# Altium schematic symbol library CPU_PowerPC.SchLib: 1 symbol
Pins are listed as number, name and electrical type; pins without a type are passive.

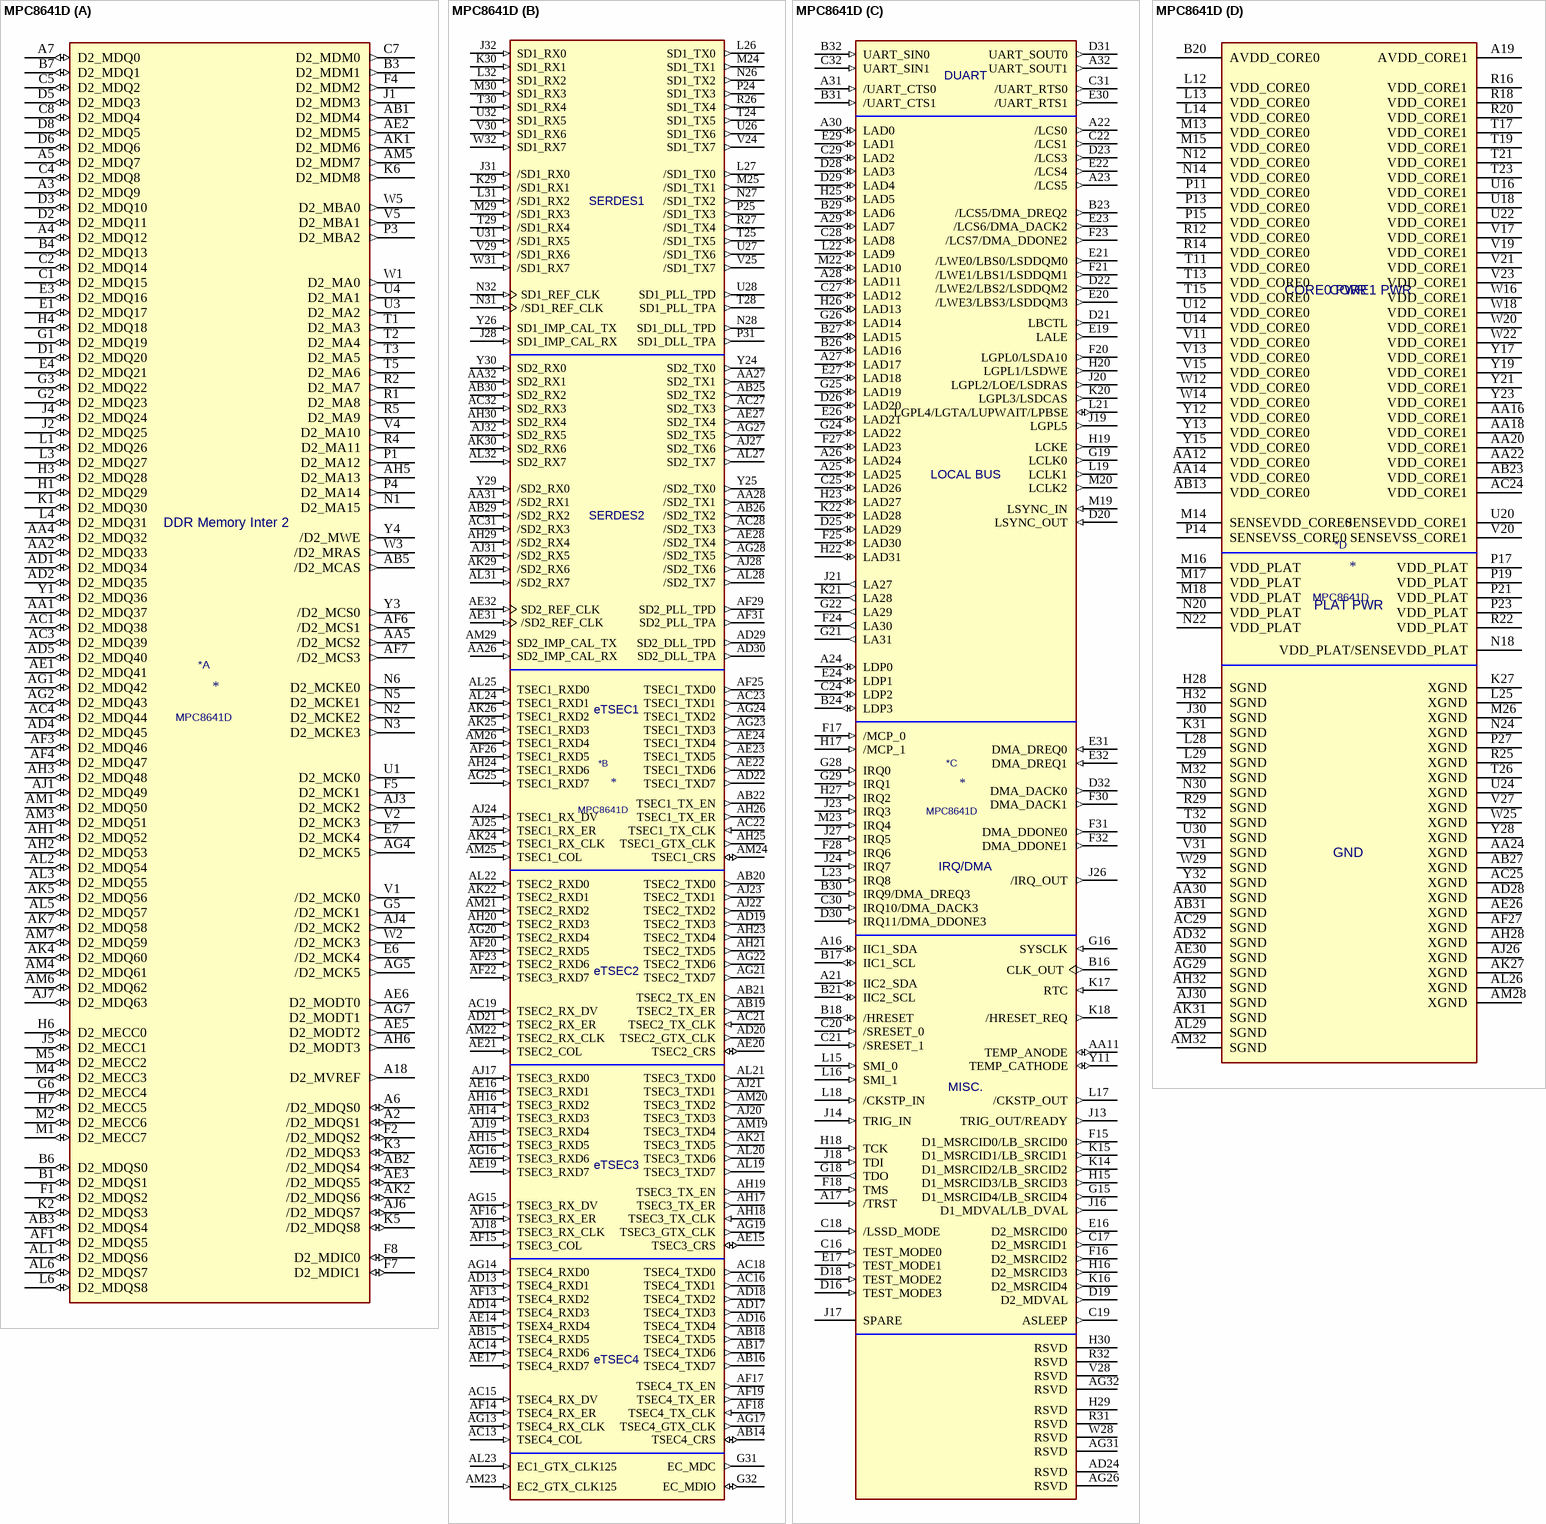
[diagram p0: symbol MPC8641D]

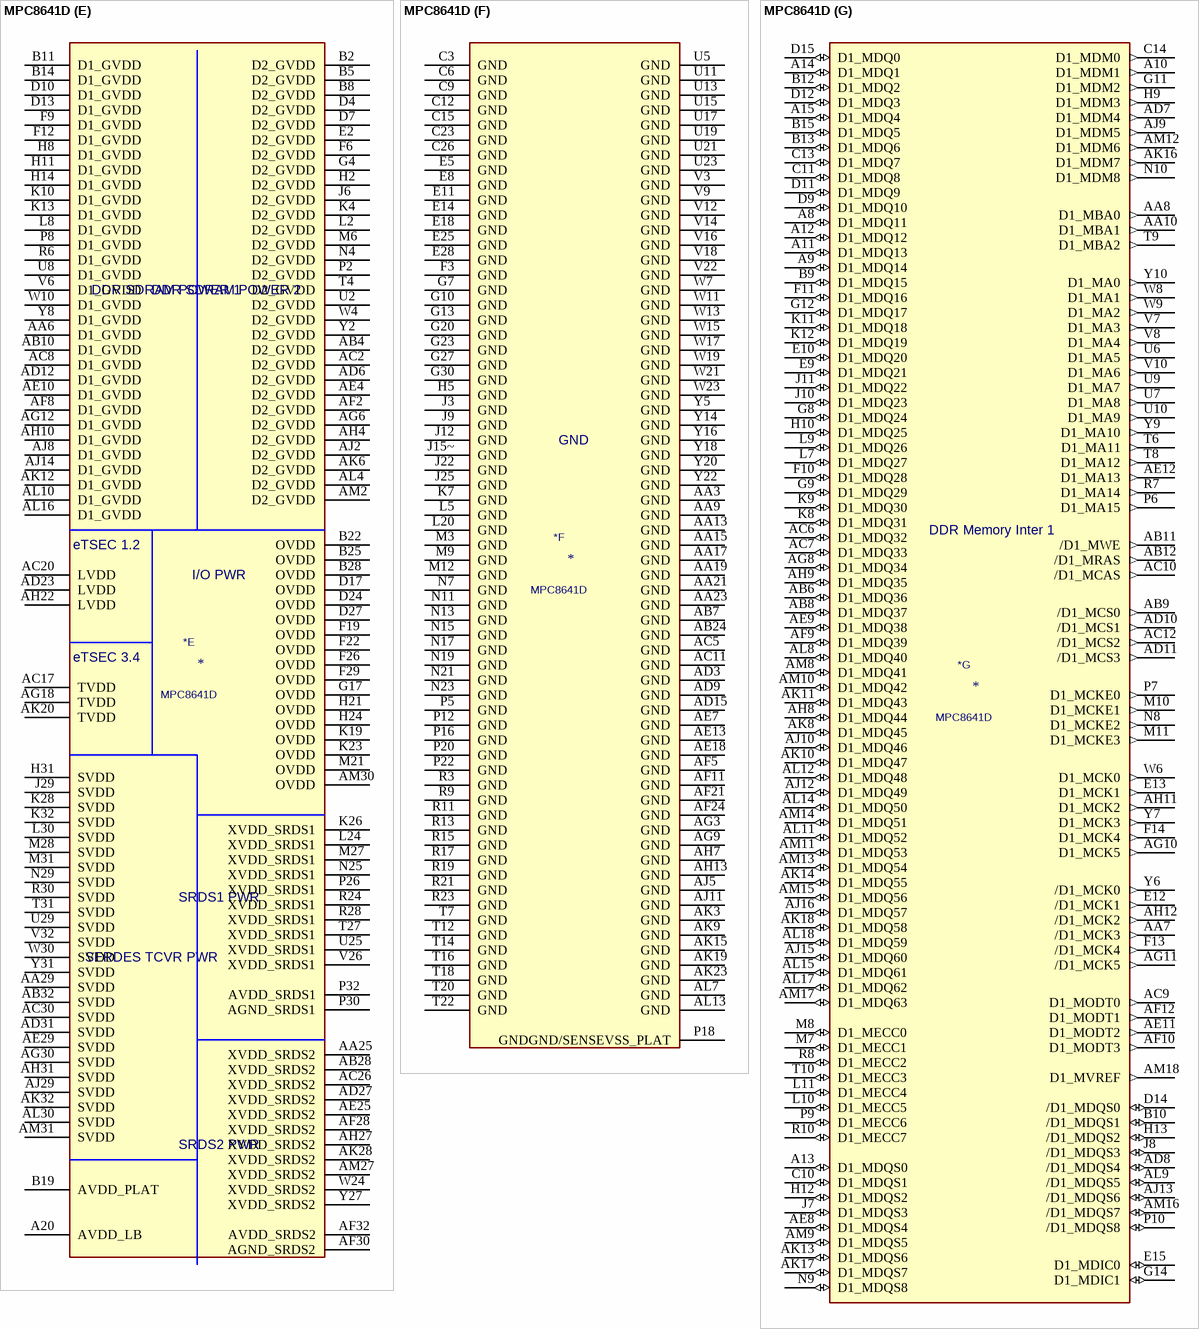
[diagram p1: symbol MPC8641D]

## MPC8641D
designator *  value MPC8641D
ki_keywords: POWERPC; ki_description: Freescale PowerPC E600 core, package BGA1023 pins pitch 1mm
part A pins: A2 /D2_MDQS1 (io), A3 D2_MDQ9 (io), A4 D2_MDQ12 (io), A5 D2_MDQ7 (io), A6 /D2_MDQS0 (io), A7 D2_MDQ0 (io), A18 D2_MVREF (out), AA1 D2_MDQ37 (io), AA2 D2_MDQ33 (io), AA4 D2_MDQ32 (io), AA5 /D2_MCS2 (out), AB1 D2_MDM4 (out), AB2 /D2_MDQS4 (io), AB3 D2_MDQS4 (io), AB5 /D2_MCAS (out), AC1 D2_MDQ38 (io), AC3 D2_MDQ39 (io), AC4 D2_MDQ44 (io), AD1 D2_MDQ34 (io), AD2 D2_MDQ35 (io), AD4 D2_MDQ45 (io), AD5 D2_MDQ40 (io), AE1 D2_MDQ41 (io), AE2 D2_MDM5 (out), AE3 /D2_MDQS5 (io), AE5 D2_MODT2 (out), AE6 D2_MODT0 (out), AF1 D2_MDQS5 (io), AF3 D2_MDQ46 (io), AF4 D2_MDQ47 (io), AF6 /D2_MCS1 (out), AF7 /D2_MCS3 (out), AG1 D2_MDQ42 (io), AG2 D2_MDQ43 (io), AG4 D2_MCK5 (out), AG5 /D2_MCK5 (out), AG7 D2_MODT1 (out), AH1 D2_MDQ52 (io), AH2 D2_MDQ53 (io), AH3 D2_MDQ48 (io), AH5 D2_MA13 (out), AH6 D2_MODT3 (out), AJ1 D2_MDQ49 (io), AJ3 D2_MCK2 (out), AJ4 /D2_MCK2 (out), AJ6 /D2_MDQS7 (io), AJ7 D2_MDQ63 (io), AK1 D2_MDM6 (out), AK2 /D2_MDQS6 (io), AK4 D2_MDQ60 (io), AK5 D2_MDQ56 (io), AK7 D2_MDQ58 (io), AL1 D2_MDQS6 (io), AL2 D2_MDQ54 (io), AL3 D2_MDQ55 (io), AL5 D2_MDQ57 (io), AL6 D2_MDQS7 (io), AM1 D2_MDQ50 (io), AM3 D2_MDQ51 (io), AM4 D2_MDQ61 (io), AM5 D2_MDM7 (out), AM6 D2_MDQ62 (io), AM7 D2_MDQ59 (io), B1 D2_MDQS1 (io), B3 D2_MDM1 (out), B4 D2_MDQ13 (io), B6 D2_MDQS0 (io), B7 D2_MDQ1 (io), C1 D2_MDQ15 (io), C2 D2_MDQ14 (io), C4 D2_MDQ8 (io), C5 D2_MDQ2 (io), C7 D2_MDM0 (out), C8 D2_MDQ4 (io), D1 D2_MDQ20 (io), D2 D2_MDQ11 (io), D3 D2_MDQ10 (io), D5 D2_MDQ3 (io), D6 D2_MDQ6 (io), D8 D2_MDQ5 (io), E1 D2_MDQ17 (io), E3 D2_MDQ16 (io), E4 D2_MDQ21 (io), E6 /D2_MCK4 (out), E7 D2_MCK4 (out), F1 D2_MDQS2 (io), F2 /D2_MDQS2 (io), F4 D2_MDM2 (out), F5 D2_MCK1 (out), F7 D2_MDIC1 (io), F8 D2_MDIC0 (io), G1 D2_MDQ19 (io), G2 D2_MDQ23 (io), G3 D2_MDQ22 (io), G5 /D2_MCK1 (out), G6 D2_MECC4 (io), H1 D2_MDQ29 (io), H3 D2_MDQ28 (io), H4 D2_MDQ18 (io), H6 D2_MECC0 (io), H7 D2_MECC5 (io), J1 D2_MDM3 (out), J2 D2_MDQ25 (io), J4 D2_MDQ24 (io), J5 D2_MECC1 (io), K1 D2_MDQ30 (io), K2 D2_MDQS3 (io), K3 /D2_MDQS3 (io), K5 /D2_MDQS8 (io), K6 D2_MDM8 (out), L1 D2_MDQ26 (io), L3 D2_MDQ27 (io), L4 D2_MDQ31 (io), L6 D2_MDQS8 (io), M1 D2_MECC7 (io), M2 D2_MECC6 (io), M4 D2_MECC3 (io), M5 D2_MECC2 (io), N1 D2_MA15 (out), N2 D2_MCKE2 (out), N3 D2_MCKE3 (out), N5 D2_MCKE1 (out), N6 D2_MCKE0 (out), P1 D2_MA12 (out), P3 D2_MBA2 (out), P4 D2_MA14 (out), R1 D2_MA8 (out), R2 D2_MA7 (out), R4 D2_MA11 (out), R5 D2_MA9 (out), T1 D2_MA3 (out), T2 D2_MA4 (out), T3 D2_MA5 (out), T5 D2_MA6 (out), U1 D2_MCK0 (out), U3 D2_MA2 (out), U4 D2_MA1 (out), V1 /D2_MCK0 (out), V2 D2_MCK3 (out), V4 D2_MA10 (out), V5 D2_MBA1 (out), W1 D2_MA0 (out), W2 /D2_MCK3 (out), W3 /D2_MRAS (out), W5 D2_MBA0 (out), Y1 D2_MDQ36 (io), Y3 /D2_MCS0 (out), Y4 /D2_MWE (out)
part B pins: AA26 SD2_IMP_CAL_RX (in), AA27 SD2_TX1 (out), AA28 /SD2_TX1 (out), AA31 /SD2_RX1 (in), AA32 SD2_RX1 (in), AB14 TSEC4_CRS (io), AB15 TSEC4_RXD5 (in), AB16 TSEC4_TXD7 (out), AB17 TSEC4_TXD6 (out), AB18 TSEC4_TXD5 (out), AB19 TSEC2_TX_ER (out), AB20 TSEC2_TXD0 (out), AB21 TSEC2_TX_EN (out), AB22 TSEC1_TX_EN (out), AB25 SD2_TX2 (out), AB26 /SD2_TX2 (out), AB29 /SD2_RX2 (in), AB30 SD2_RX2 (in), AC13 TSEC4_COL (in), AC14 TSEC4_RXD6 (in), AC15 TSEC4_RX_DV (in), AC16 TSEC4_TXD1 (out), AC18 TSEC4_TXD0 (out), AC19 TSEC2_RX_DV (in), AC21 TSEC2_TX_CLK (in), AC22 TSEC1_TX_CLK (in), AC23 TSEC1_TXD1 (out), AC27 SD2_TX3 (out), AC28 /SD2_TX3 (out), AC31 /SD2_RX3 (in), AC32 SD2_RX3 (in), AD13 TSEC4_RXD1 (in), AD14 TSEC4_RXD3 (in), AD16 TSEC4_TXD4 (out), AD17 TSEC4_TXD3 (out), AD18 TSEC4_TXD2 (out), AD19 TSEC2_TXD3 (out), AD20 TSEC2_GTX_CLK (out), AD21 TSEC2_RX_ER (in), AD22 TSEC1_TXD7 (out), AD29 SD2_DLL_TPD (out), AD30 SD2_DLL_TPA (out), AE14 TSEX4_RXD4 (in), AE15 TSEC3_CRS (io), AE16 TSEC3_RXD1 (in), AE17 TSEC4_RXD7 (in), AE19 TSEC3_RXD7 (in), AE20 TSEC2_CRS (io), AE21 TSEC2_COL (in), AE22 TSEC1_TXD6 (out), AE23 TSEC1_TXD5 (out), AE24 TSEC1_TXD4 (out), AE27 SD2_TX4 (out), AE28 /SD2_TX4 (out), AE31 /SD2_REF_CLK (in), AE32 SD2_REF_CLK (in), AF13 TSEC4_RXD2 (in), AF14 TSEC4_RX_ER (in), AF15 TSEC3_COL (in), AF16 TSEC3_RX_ER (in), AF17 TSEC4_TX_EN (out), AF18 TSEC4_TX_CLK (in), AF19 TSEC4_TX_ER (out), AF20 TSEC2_RXD5 (in), AF22 TSEC3_RXD7 (in), AF23 TSEC2_RXD6 (in), AF25 TSEC1_TXD0 (out), AF26 TSEC1_RXD5 (in), AF29 SD2_PLL_TPD (out), AF31 SD2_PLL_TPA (out), AG13 TSEC4_RX_CLK (in), AG14 TSEC4_RXD0 (in), AG15 TSEC3_RX_DV (in), AG16 TSEC3_RXD6 (in), AG17 TSEC4_GTX_CLK (out), AG19 TSEC3_GTX_CLK (out), AG20 TSEC2_RXD4 (in), AG21 TSEC2_TXD7 (out), AG22 TSEC2_TXD6 (out), AG23 TSEC1_TXD3 (out), AG24 TSEC1_TXD2 (out), AG25 TSEC1_RXD7 (in), AG27 SD2_TX5 (out), AG28 /SD2_TX5 (out), AH14 TSEC3_RXD3 (in), AH15 TSEC3_RXD5 (in), AH16 TSEC3_RXD2 (in), AH17 TSEC3_TX_ER (out), AH18 TSEC3_TX_CLK (in), AH19 TSEC3_TX_EN (out), AH20 TSEC2_RXD3 (in), AH21 TSEC2_TXD5 (out), AH23 TSEC2_TXD4 (out), AH24 TSEC1_RXD6 (in), AH25 TSEC1_GTX_CLK (out), AH26 TSEC1_TX_ER (out), AH29 /SD2_RX4 (in), AH30 SD2_RX4 (in), AJ17 TSEC3_RXD0 (in), AJ18 TSEC3_RX_CLK (in), AJ19 TSEC3_RXD4 (in), AJ20 TSEC3_TXD3 (out), AJ21 TSEC3_TXD1 (out), AJ22 TSEC2_TXD2 (out), AJ23 TSEC2_TXD1 (out), AJ24 TSEC1_RX_DV (in), AJ25 TSEC1_RX_ER (in), AJ27 SD2_TX6 (out), AJ28 /SD2_TX6 (out), AJ31 /SD2_RX5 (in), AJ32 SD2_RX5 (in), AK21 TSEC3_TXD5 (out), AK22 TSEC2_RXD1 (in), AK24 TSEC1_RX_CLK (in), AK25 TSEC1_RXD3 (in), AK26 TSEC1_RXD2 (in), AK29 /SD2_RX6 (in), AK30 SD2_RX6 (in), AL19 TSEC3_TXD7 (out), AL20 TSEC3_TXD6 (out), AL21 TSEC3_TXD0 (out), AL22 TSEC2_RXD0 (in), AL23 EC1_GTX_CLK125 (in), AL24 TSEC1_RXD1 (in), AL25 TSEC1_RXD0 (in), AL27 SD2_TX7 (out), AL28 /SD2_TX7 (out), AL31 /SD2_RX7 (in), AL32 SD2_RX7 (in), AM19 TSEC3_TXD4 (out), AM20 TSEC3_TXD2 (out), AM21 TSEC2_RXD2 (in), AM22 TSEC2_RX_CLK (in), AM23 EC2_GTX_CLK125 (in), AM24 TSEC1_CRS (io), AM25 TSEC1_COL (in), AM26 TSEC1_RXD4 (in), AM29 SD2_IMP_CAL_TX (in), G31 EC_MDC (out), G32 EC_MDIO (io), J28 SD1_IMP_CAL_RX (in), J31 /SD1_RX0 (in), J32 SD1_RX0 (in), K29 /SD1_RX1 (in), K30 SD1_RX1 (in), L26 SD1_TX0 (out), L27 /SD1_TX0 (out), L31 /SD1_RX2 (in), L32 SD1_RX2 (in), M24 SD1_TX1 (out), M25 /SD1_TX1 (out), M29 /SD1_RX3 (in), M30 SD1_RX3 (in), N26 SD1_TX2 (out), N27 /SD1_TX2 (out), N28 SD1_DLL_TPD (out), N31 /SD1_REF_CLK (in), N32 SD1_REF_CLK (in), P24 SD1_TX3 (out), P25 /SD1_TX3 (out), P31 SD1_DLL_TPA (out), R26 SD1_TX4 (out), R27 /SD1_TX4 (out), T24 SD1_TX5 (out), T25 /SD1_TX5 (out), T28 SD1_PLL_TPA (out), T29 /SD1_RX4 (in), T30 SD1_RX4 (in), U26 SD1_TX6 (out), U27 /SD1_TX6 (out), U28 SD1_PLL_TPD (out), U31 /SD1_RX5 (in), U32 SD1_RX5 (in), V24 SD1_TX7 (out), V25 /SD1_TX7 (out), V29 /SD1_RX6 (in), V30 SD1_RX6 (in), W31 /SD1_RX7 (in), W32 SD1_RX7 (in), Y24 SD2_TX0 (out), Y25 /SD2_TX0 (out), Y26 SD1_IMP_CAL_TX (in), Y29 /SD2_RX0 (in), Y30 SD2_RX0 (in)
part C pins: A16 IIC1_SDA (io), A17 /TRST (in), A21 IIC2_SDA (io), A22 /LCS0 (out), A23 /LCS5 (out), A24 LDP0 (io), A25 LAD25 (io), A26 LAD24 (io), A27 LAD17 (io), A28 LAD11 (io), A29 LAD7 (io), A30 LAD0 (io), A31 /UART_CTS0 (in), A32 UART_SOUT1 (out), AA11 TEMP_ANODE (io), AD24 RSVD, AD25 NC (in) hidden, AD26 NC (in) hidden, AG26 RSVD, AG31 RSVD, AG32 RSVD, B16 CLK_OUT (out), B17 IIC1_SCL (io), B18 /HRESET (io), B21 IIC2_SCL (io), B23 /LCS5/DMA_DREQ2 (out), B24 LDP3 (io), B26 LAD16 (io), B27 LAD15 (io), B29 LAD6 (io), B30 IRQ9/DMA_DREQ3 (in), B31 /UART_CTS1 (in), B32 UART_SIN0 (in), C16 TEST_MODE0 (in), C17 D2_MSRCID1 (out), C18 /LSSD_MODE (in), C19 ASLEEP (out), C20 /SRESET_0 (in), C21 /SRESET_1 (in), C22 /LCS1 (out), C24 LDP2 (io), C25 LAD26 (io), C27 LAD12 (io), C28 LAD8 (io), C29 LAD2 (io), C30 IRQ10/DMA_DACK3 (in), C31 /UART_RTS0 (out), C32 UART_SIN1 (in), D16 TEST_MODE3 (in), D18 TEST_MODE2 (in), D19 D2_MDVAL (out), D20 LSYNC_OUT (in), D21 LBCTL (out), D22 /LWE2/LBS2/LSDDQM2 (out), D23 /LCS3 (out), D25 LAD29 (io), D26 LAD20 (io), D28 LAD3 (io), D29 LAD4 (io), D30 IRQ11/DMA_DDONE3 (in), D31 UART_SOUT0 (out), D32 DMA_DACK0 (out), E16 D2_MSRCID0 (out), E17 TEST_MODE1 (in), E19 LALE (out), E20 /LWE3/LBS3/LSDDQM3 (out), E21 /LWE0/LBS0/LSDDQM0 (out), E22 /LCS4 (out), E23 /LCS6/DMA_DACK2 (out), E24 LDP1 (io), E26 LAD21 (io), E27 LAD18 (io), E29 LAD1 (io), E30 /UART_RTS1 (out), E31 DMA_DREQ0 (in), E32 DMA_DREQ1 (in), F15 D1_MSRCID0/LB_SRCID0 (out), F16 D2_MSRCID2 (out), F17 /MCP_0 (in), F18 TMS (in), F20 LGPL0/LSDA10 (out), F21 /LWE1/LBS1/LSDDQM1 (out), F23 /LCS7/DMA_DDONE2 (out), F24 LA30 (out), F25 LAD30 (io), F27 LAD23 (io), F28 IRQ6 (in), F30 DMA_DACK1 (out), F31 DMA_DDONE0 (out), F32 DMA_DDONE1 (out), G15 D1_MSRCID4/LB_SRCID4 (out), G16 SYSCLK (in), G18 TDO (out), G19 LCLK0 (out), G21 LA31 (out), G22 LA29 (out), G24 LAD22 (io), G25 LAD19 (io), G26 LAD14 (io), G28 IRQ0 (in), G29 IRQ1 (in), H15 D1_MSRCID3/LB_SRCID3 (out), H16 D2_MSRCID3 (out), H17 /MCP_1 (in), H18 TCK (in), H19 LCKE (out), H20 LGPL1/LSDWE (out), H22 LAD31 (io), H23 LAD27 (io), H25 LAD5 (io), H26 LAD13 (io), H27 IRQ2 (in), H29 RSVD, H30 RSVD, J13 TRIG_OUT/READY (out), J14 TRIG_IN (in), J16 D1_MDVAL/LB_DVAL (out), J17 SPARE, J18 TDI (in), J19 LGPL5 (out), J20 LGPL2/LOE/LSDRAS (out), J21 LA27 (out), J23 IRQ3 (in), J24 IRQ7 (in), J26 /IRQ_OUT (out), J27 IRQ5 (in), K14 D1_MSRCID2/LB_SRCID2 (out), K15 D1_MSRCID1/LB_SRCID1 (out), K16 D2_MSRCID4 (out), K17 RTC (in), K18 /HRESET_REQ (out), K20 LGPL3/LSDCAS (out), K21 LA28 (out), K22 LAD28 (io), K24 NC (in) hidden, K25 NC (in) hidden, L15 SMI_0 (in), L16 SMI_1 (in), L17 /CKSTP_OUT (out), L18 /CKSTP_IN (in), L19 LCLK1 (out), L21 LGPL4/LGTA/LUPWAIT/LPBSE (io), L22 LAD9 (io), L23 IRQ8 (in), M19 LSYNC_IN (in), M20 LCLK2 (out), M22 LAD10 (io), M23 IRQ4 (in), P28 NC (in) hidden, P29 NC (in) hidden, R31 RSVD, R32 RSVD, V28 RSVD, W26 NC (in) hidden, W27 NC (in) hidden, W28 RSVD, Y11 TEMP_CATHODE (io)
part D pins: A19 AVDD_CORE1 (power), AA12 VDD_CORE0 (power), AA14 VDD_CORE0 (power), AA16 VDD_CORE1 (power), AA18 VDD_CORE1 (power), AA20 VDD_CORE1 (power), AA22 VDD_CORE1 (power), AA24 XGND (power), AA30 SGND (power), AB13 VDD_CORE0 (power), AB23 VDD_CORE1 (power), AB27 XGND (power), AB31 SGND (power), AC24 VDD_CORE1 (power), AC25 XGND (power), AC29 SGND (power), AD28 XGND (power), AD32 SGND (power), AE26 XGND (power), AE30 SGND (power), AF27 XGND (power), AG29 SGND (power), AH28 XGND (power), AH32 SGND (power), AJ26 XGND (power), AJ30 SGND (power), AK27 XGND (power), AK31 SGND (power), AL26 XGND (power), AL29 SGND (power), AM28 XGND (power), AM32 SGND (power), B20 AVDD_CORE0 (power), H28 SGND (power), H32 SGND (power), J30 SGND (power), K27 XGND (power), K31 SGND (power), L12 VDD_CORE0 (power), L13 VDD_CORE0 (power), L14 VDD_CORE0 (power), L25 XGND (power), L28 SGND (power), L29 SGND (power), M13 VDD_CORE0 (power), M14 SENSEVDD_CORE0 (power), M15 VDD_CORE0 (power), M16 VDD_PLAT (power), M17 VDD_PLAT (power), M18 VDD_PLAT (power), M26 XGND (power), M32 SGND (power), N12 VDD_CORE0 (power), N14 VDD_CORE0 (power), N18 VDD_PLAT/SENSEVDD_PLAT (power), N20 VDD_PLAT (power), N22 VDD_PLAT (power), N24 XGND (power), N30 SGND (power), P11 VDD_CORE0 (power), P13 VDD_CORE0 (power), P14 SENSEVSS_CORE0 (power), P15 VDD_CORE0 (power), P17 VDD_PLAT (power), P19 VDD_PLAT (power), P21 VDD_PLAT (power), P23 VDD_PLAT (power), P27 XGND (power), R12 VDD_CORE0 (power), R14 VDD_CORE0 (power), R16 VDD_CORE1 (power), R18 VDD_CORE1 (power), R20 VDD_CORE1 (power), R22 VDD_PLAT (power), R25 XGND (power), R29 SGND (power), T11 VDD_CORE0 (power), T13 VDD_CORE0 (power), T15 VDD_CORE0 (power), T17 VDD_CORE1 (power), T19 VDD_CORE1 (power), T21 VDD_CORE1 (power), T23 VDD_CORE1 (power), T26 XGND (power), T32 SGND (power), U12 VDD_CORE0 (power), U14 VDD_CORE0 (power), U16 VDD_CORE1 (power), U18 VDD_CORE1 (power), U20 SENSEVDD_CORE1 (power), U22 VDD_CORE1 (power), U24 XGND (power), U30 SGND (power), V11 VDD_CORE0 (power), V13 VDD_CORE0 (power), V15 VDD_CORE0 (power), V17 VDD_CORE1 (power), V19 VDD_CORE1 (power), V20 SENSEVSS_CORE1 (power), V21 VDD_CORE1 (power), V23 VDD_CORE1 (power), V27 XGND (power), V31 SGND (power), W12 VDD_CORE0 (power), W14 VDD_CORE0 (power), W16 VDD_CORE1 (power), W18 VDD_CORE1 (power), W20 VDD_CORE1 (power), W22 VDD_CORE1 (power), W25 XGND (power), W29 SGND (power), Y12 VDD_CORE0 (power), Y13 VDD_CORE0 (power), Y15 VDD_CORE0 (power), Y17 VDD_CORE1 (power), Y19 VDD_CORE1 (power), Y21 VDD_CORE1 (power), Y23 VDD_CORE1 (power), Y28 XGND (power), Y32 SGND (power)
part E pins: A20 AVDD_LB (power), AA6 D1_GVDD (power), AA25 XVDD_SRDS2 (power), AA29 SVDD (power), AB4 D2_GVDD (power), AB10 D1_GVDD (power), AB28 XVDD_SRDS2 (power), AB32 SVDD (power), AC2 D2_GVDD (power), AC8 D1_GVDD (power), AC17 TVDD (power), AC20 LVDD (power), AC26 XVDD_SRDS2 (power), AC30 SVDD (power), AD6 D2_GVDD (power), AD12 D1_GVDD (power), AD23 LVDD (power), AD27 XVDD_SRDS2 (power), AD31 SVDD (power), AE4 D2_GVDD (power), AE10 D1_GVDD (power), AE25 XVDD_SRDS2 (power), AE29 SVDD (power), AF2 D2_GVDD (power), AF8 D1_GVDD (power), AF28 XVDD_SRDS2 (power), AF30 AGND_SRDS2 (power), AF32 AVDD_SRDS2 (power), AG6 D2_GVDD (power), AG12 D1_GVDD (power), AG18 TVDD (power), AG30 SVDD (power), AH4 D2_GVDD (power), AH10 D1_GVDD (power), AH22 LVDD (power), AH27 XVDD_SRDS2 (power), AH31 SVDD (power), AJ2 D2_GVDD (power), AJ8 D1_GVDD (power), AJ14 D1_GVDD (power), AJ29 SVDD (power), AK6 D2_GVDD (power), AK12 D1_GVDD (power), AK20 TVDD (power), AK28 XVDD_SRDS2 (power), AK32 SVDD (power), AL4 D2_GVDD (power), AL10 D1_GVDD (power), AL16 D1_GVDD (power), AL30 SVDD (power), AM2 D2_GVDD (power), AM27 XVDD_SRDS2 (power), AM30 OVDD (power), AM31 SVDD (power), B2 D2_GVDD (power), B5 D2_GVDD (power), B8 D2_GVDD (power), B11 D1_GVDD (power), B14 D1_GVDD (power), B19 AVDD_PLAT (power), B22 OVDD (power), B25 OVDD (power), B28 OVDD (power), D4 D2_GVDD (power), D7 D2_GVDD (power), D10 D1_GVDD (power), D13 D1_GVDD (power), D17 OVDD (power), D24 OVDD (power), D27 OVDD (power), E2 D2_GVDD (power), F6 D2_GVDD (power), F9 D1_GVDD (power), F12 D1_GVDD (power), F19 OVDD (power), F22 OVDD (power), F26 OVDD (power), F29 OVDD (power), G4 D2_GVDD (power), G17 OVDD (power), H2 D2_GVDD (power), H8 D1_GVDD (power), H11 D1_GVDD (power), H14 D1_GVDD (power), H21 OVDD (power), H24 OVDD (power), H31 SVDD (power), J6 D2_GVDD (power), J29 SVDD (power), K4 D2_GVDD (power), K10 D1_GVDD (power), K13 D1_GVDD (power), K19 OVDD (power), K23 OVDD (power), K26 XVDD_SRDS1 (power), K28 SVDD (power), K32 SVDD (power), L2 D2_GVDD (power), L8 D1_GVDD (power), L24 XVDD_SRDS1 (power), L30 SVDD (power), M6 D2_GVDD (power), M21 OVDD (power), M27 XVDD_SRDS1 (power), M28 SVDD (power), M31 SVDD (power), N4 D2_GVDD (power), N25 XVDD_SRDS1 (power), N29 SVDD (power), P2 D2_GVDD (power), P8 D1_GVDD (power), P26 XVDD_SRDS1 (power), P30 AGND_SRDS1 (power), P32 AVDD_SRDS1 (power), R6 D1_GVDD (power), R24 XVDD_SRDS1 (power), R28 XVDD_SRDS1 (power), R30 SVDD (power), T4 D2_GVDD (power), T27 XVDD_SRDS1 (power), T31 SVDD (power), U2 D2_GVDD (power), U8 D1_GVDD (power), U25 XVDD_SRDS1 (power), U29 SVDD (power), V6 D1_GVDD (power), V26 XVDD_SRDS1 (power), V32 SVDD (power), W4 D2_GVDD (power), W10 D1_GVDD (power), W24 XVDD_SRDS2 (power), W30 SVDD (power), Y2 D2_GVDD (power), Y8 D1_GVDD (power), Y27 XVDD_SRDS2 (power), Y31 SVDD (power)
part F pins: AA3 GND (power), AA9 GND (power), AA13 GND (power), AA15 GND (power), AA17 GND (power), AA19 GND (power), AA21 GND (power), AA23 GND (power), AB7 GND (power), AB24 GND (power), AC5 GND (power), AC11 GND (power), AD3 GND (power), AD9 GND (power), AD15 GND (power), AE7 GND (power), AE13 GND (power), AE18 GND (power), AF5 GND (power), AF11 GND (power), AF21 GND (power), AF24 GND (power), AG3 GND (power), AG9 GND (power), AH7 GND (power), AH13 GND (power), AJ5 GND (power), AJ11 GND (power), AK3 GND (power), AK9 GND (power), AK15 GND (power), AK19 GND (power), AK23 GND (power), AL7 GND (power), AL13 GND (power), C3 GND (power), C6 GND (power), C9 GND (power), C12 GND (power), C15 GND (power), C23 GND (power), C26 GND (power), E5 GND (power), E8 GND (power), E11 GND (power), E14 GND (power), E18 GND (power), E25 GND (power), E28 GND (power), F3 GND (power), G7 GND (power), G10 GND (power), G13 GND (power), G20 GND (power), G23 GND (power), G27 GND (power), G30 GND (power), H5 GND (power), J3 GND (power), J9 GND (power), J12 GND (power), J15~ GND (power), J22 GND (power), J25 GND (power), K7 GND (power), L5 GND (power), L20 GND (power), M3 GND (power), M9 GND (power), M12 GND (power), N7 GND (power), N11 GND (power), N13 GND (power), N15 GND (power), N17 GND (power), N19 GND (power), N21 GND (power), N23 GND (power), P5 GND (power), P12 GND (power), P16 GND (power), P18 GNDGND/SENSEVSS_PLAT (power), P20 GND (power), P22 GND (power), R3 GND (power), R9 GND (power), R11 GND (power), R13 GND (power), R15 GND (power), R17 GND (power), R19 GND (power), R21 GND (power), R23 GND (power), T7 GND (power), T12 GND (power), T14 GND (power), T16 GND (power), T18 GND (power), T20 GND (power), T22 GND (power), U5 GND (power), U11 GND (power), U13 GND (power), U15 GND (power), U17 GND (power), U19 GND (power), U21 GND (power), U23 GND (power), V3 GND (power), V9 GND (power), V12 GND (power), V14 GND (power), V16 GND (power), V18 GND (power), V22 GND (power), W7 GND (power), W11 GND (power), W13 GND (power), W15 GND (power), W17 GND (power), W19 GND (power), W21 GND (power), W23 GND (power), Y5 GND (power), Y14 GND (power), Y16 GND (power), Y18 GND (power), Y20 GND (power), Y22 GND (power)
part G pins: A8 D1_MDQ11 (io), A9 D1_MDQ14 (io), A10 D1_MDM1 (out), A11 D1_MDQ13 (io), A12 D1_MDQ12 (io), A13 D1_MDQS0 (io), A14 D1_MDQ1 (io), A15 D1_MDQ4 (io), AA7 /D1_MCK3 (out), AA8 D1_MBA0 (out), AA10 D1_MBA1 (out), AB6 D1_MDQ36 (io), AB8 D1_MDQ37 (io), AB9 /D1_MCS0 (out), AB11 /D1_MWE (out), AB12 /D1_MRAS (out), AC6 D1_MDQ32 (io), AC7 D1_MDQ33 (io), AC9 D1_MODT0 (out), AC10 /D1_MCAS (out), AC12 /D1_MCS2 (out), AD7 D1_MDM4 (out), AD8 /D1_MDQS4 (io), AD10 /D1_MCS1 (out), AD11 /D1_MCS3 (out), AE8 D1_MDQS4 (io), AE9 D1_MDQ38 (io), AE11 D1_MODT2 (out), AE12 D1_MA13 (out), AF9 D1_MDQ39 (io), AF10 D1_MODT3 (out), AF12 D1_MODT1 (out), AG8 D1_MDQ34 (io), AG10 D1_MCK5 (out), AG11 /D1_MCK5 (out), AH8 D1_MDQ44 (io), AH9 D1_MDQ35 (io), AH11 D1_MCK2 (out), AH12 /D1_MCK2 (out), AJ9 D1_MDM5 (out), AJ10 D1_MDQ46 (io), AJ12 D1_MDQ49 (io), AJ13 /D1_MDQS6 (io), AJ15 D1_MDQ60 (io), AJ16 D1_MDQ57 (io), AK8 D1_MDQ45 (io), AK10 D1_MDQ47 (io), AK11 D1_MDQ43 (io), AK13 D1_MDQS6 (io), AK14 D1_MDQ55 (io), AK16 D1_MDM7 (out), AK17 D1_MDQS7 (io), AK18 D1_MDQ58 (io), AL8 D1_MDQ40 (io), AL9 /D1_MDQS5 (io), AL11 D1_MDQ52 (io), AL12 D1_MDQ48 (io), AL14 D1_MDQ50 (io), AL15 D1_MDQ61 (io), AL17 D1_MDQ62 (io), AL18 D1_MDQ59 (io), AM8 D1_MDQ41 (io), AM9 D1_MDQS5 (io), AM10 D1_MDQ42 (io), AM11 D1_MDQ53 (io), AM12 D1_MDM6 (out), AM13 D1_MDQ54 (io), AM14 D1_MDQ51 (io), AM15 D1_MDQ56 (io), AM16 /D1_MDQS7 (io), AM17 D1_MDQ63 (io), AM18 D1_MVREF (out), B9 D1_MDQ15 (io), B10 /D1_MDQS1 (io), B12 D1_MDQ2 (io), B13 D1_MDQ6 (io), B15 D1_MDQ5 (io), C10 D1_MDQS1 (io), C11 D1_MDQ8 (io), C13 D1_MDQ7 (io), C14 D1_MDM0 (out), D9 D1_MDQ10 (io), D11 D1_MDQ9 (io), D12 D1_MDQ3 (io), D14 /D1_MDQS0 (io), D15 D1_MDQ0 (io), E9 D1_MDQ21 (io), E10 D1_MDQ20 (io), E12 /D1_MCK1 (out), E13 D1_MCK1 (out), E15 D1_MDIC0 (io), F10 D1_MDQ28 (io), F11 D1_MDQ16 (io), F13 /D1_MCK4 (out), F14 D1_MCK4 (out), G8 D1_MDQ24 (io), G9 D1_MDQ29 (io), G11 D1_MDM2 (out), G12 D1_MDQ17 (io), G14 D1_MDIC1 (io), H9 D1_MDM3 (out), H10 D1_MDQ25 (io), H12 D1_MDQS2 (io), H13 /D1_MDQS2 (io), J7 D1_MDQS3 (io), J8 /D1_MDQS3 (io), J10 D1_MDQ23 (io), J11 D1_MDQ22 (io), K8 D1_MDQ31 (io), K9 D1_MDQ30 (io), K11 D1_MDQ18 (io), K12 D1_MDQ19 (io), L7 D1_MDQ27 (io), L9 D1_MDQ26 (io), L10 D1_MECC5 (io), L11 D1_MECC4 (io), M7 D1_MECC1 (io), M8 D1_MECC0 (io), M10 D1_MCKE1 (out), M11 D1_MCKE3 (out), N8 D1_MCKE2 (out), N9 D1_MDQS8 (io), N10 D1_MDM8 (out), P6 D1_MA15 (out), P7 D1_MCKE0 (out), P9 D1_MECC6 (io), P10 /D1_MDQS8 (io), R7 D1_MA14 (out), R8 D1_MECC2 (io), R10 D1_MECC7 (io), T6 D1_MA11 (out), T8 D1_MA12 (out), T9 D1_MBA2 (out), T10 D1_MECC3 (io), U6 D1_MA5 (out), U7 D1_MA8 (out), U9 D1_MA7 (out), U10 D1_MA9 (out), V7 D1_MA3 (out), V8 D1_MA4 (out), V10 D1_MA6 (out), W6 D1_MCK0 (out), W8 D1_MA1 (out), W9 D1_MA2 (out), Y6 /D1_MCK0 (out), Y7 D1_MCK3 (out), Y9 D1_MA10 (out), Y10 D1_MA0 (out)
part A text: DDR Memory Inter 2
part B text: SERDES1; SERDES2; eTSEC1; eTSEC2; eTSEC3; eTSEC4
part C text: DUART; LOCAL BUS; IRQ/DMA; MISC.
part D text: CORE0 PWR; CORE1 PWR; PLAT PWR
part E text: DDR SDRAM POWER 1; DDR SDRAM POWER 2; eTSEC 1.2; I/O PWR; eTSEC 3.4; SRDS1 PWR; SERDES TCVR PWR; SRDS2 PWR
part G text: DDR Memory Inter 1